# EAGLE library part 37LV* (library adp150)
Serial EPROM 36 K/64 K/128 K
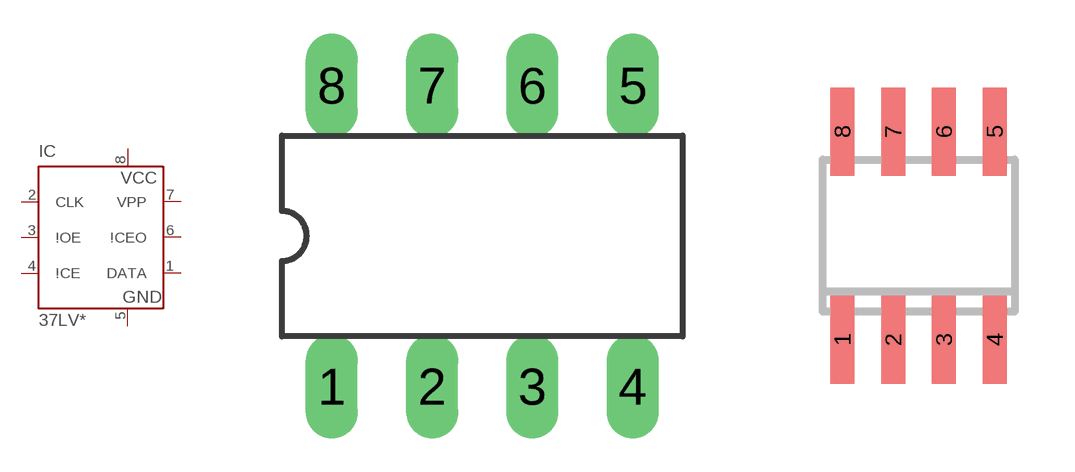
[diagram p48: symbol with the pads of DIL8; footprints DIL8, SO-08]

Designator prefix IC

## 37LV128P, 37LV36P, 37LV65P  [DIL8]
1  DATA  hiz
2  CLK  in
3  \!OE  in
4  \!CE  in
5  GND  pwr
6  \!CEO  out
7  VPP  in
8  VCC  pwr

## 37LV128SN, 37LV36SN, 37LV65SN  [SO-08]
Pads as for DIL8

## 37LV128L, 37LV36L, 37LV65L  [PLCC20S]
2  DATA  hiz
4  CLK  in
6  \!OE  in
8  \!CE  in
10  GND  pwr
14  \!CEO  out
17  VPP  in
20  VCC  pwr

## Footprint DIL8 (pad centres in mm)
Dual In Line package type P
drill 0.813 long: 1 -3.81,-3.81; 2 -1.27,-3.81; 3 1.27,-3.81; 4 3.81,-3.81; 5 3.81,3.81; 6 1.27,3.81; 7 -1.27,3.81; 8 -3.81,3.81

## Footprint SO-08 (pad centres in mm)
Small Outline Narrow Plastic Gull Wing 150-mil body, package type SN
smd 0.6 x 2.2: 1 -1.905,-2.6; 2 -0.635,-2.6; 3 0.635,-2.6; 4 1.905,-2.6; 5 1.905,2.6; 6 0.635,2.6; 7 -0.635,2.6; 8 -1.905,2.6

## Footprint PLCC20S (pad centres in mm)
PLASTIC LEADED CHIP CARRIER square, package type L
smd 0.6 x 2.2: 1 0,4.3; 2 -1.27,4.3; 3 -2.54,4.3; 9 -2.54,-4.3; 10 -1.27,-4.3; 11 0,-4.3; 12 1.27,-4.3; 13 2.54,-4.3; 19 2.54,4.3; 20 1.27,4.3
smd 2.2 x 0.6: 4 -4.3,2.54; 5 -4.3,1.27; 6 -4.3,0; 7 -4.3,-1.27; 8 -4.3,-2.54; 14 4.3,-2.54; 15 4.3,-1.27; 16 4.3,0; 17 4.3,1.27; 18 4.3,2.54